# Altium footprint library resistencias_smd.PCBLIB: 183 footprints (part 9 of 12)
Each footprint in its own frame and in the unit in brackets; x right, y up, seen from the top. Pads: shape width x height; smd on the part's side, far side on the other; paste and mask are expansions set on the pad; w line width, h text height; cw(c..) or ccw(c..) is an arc to the next point about the centre after c.
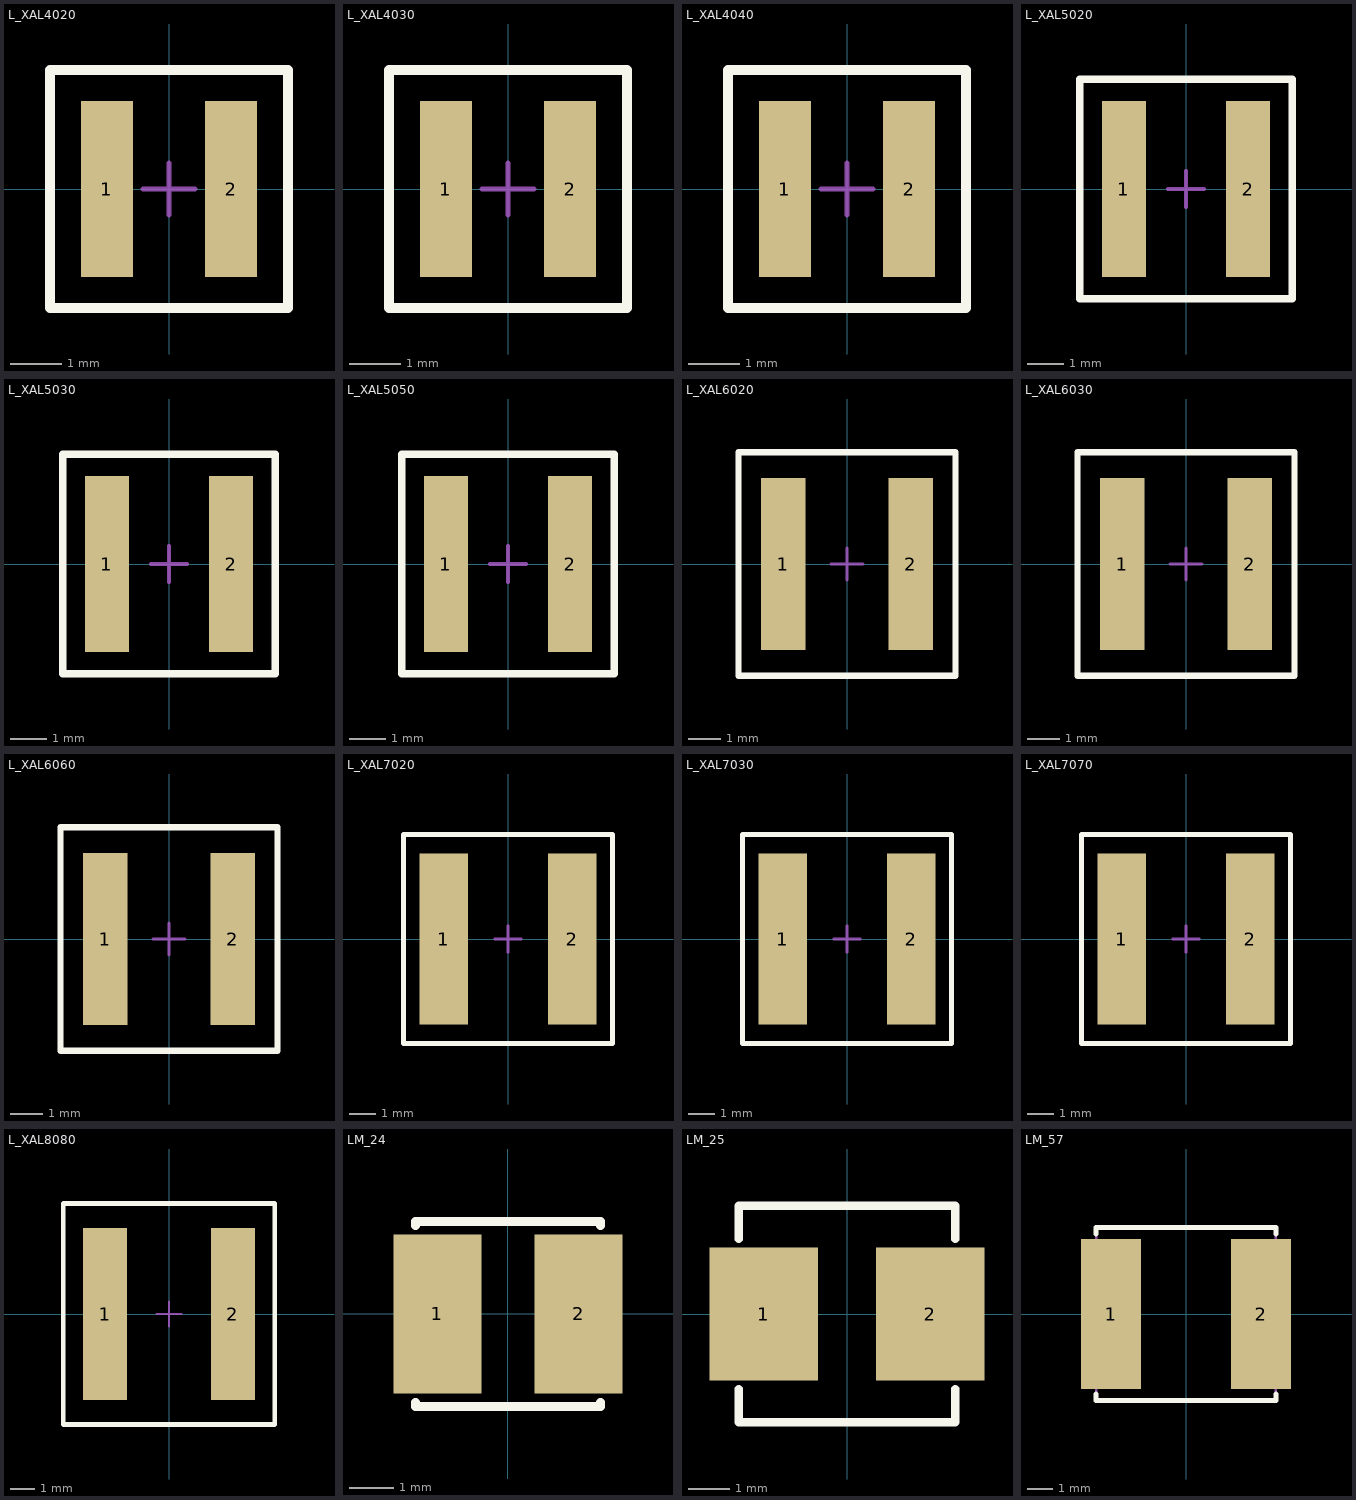
[diagram p8: the footprints below, top view; thin cyan lines are the x and y axes]

## L_XAL4020 [mm] "Inductor, XAL4020, 4.0x4.0x2.1mm"
height 2.1
pads (2):
  rect 1x3.4 smd: 1(-1.2,0) 2(1.2,0)
Top Overlay:
  lines w0.2: -2.3,-2.3 -2.3,2.3 2.3,2.3 2.3,-2.3 -2.3,-2.3
Mechanical 13:
  lines w0.1: -0.5,0 0.5,0 ; 0,-0.5 0,0.5
3D body "Coilcraft-XAL4020.step": height 2.1, standoff 0, extent -2.15,-2.15 2.15,2.15

## L_XAL4030 [mm] "Inductor, XAL4030, 4.0x4.0x3.1mm"
height 3.1
pads (2):
  rect 1x3.4 smd: 1(-1.2,0) 2(1.2,0)
Top Overlay:
  lines w0.2: -2.3,-2.3 -2.3,2.3 2.3,2.3 2.3,-2.3 -2.3,-2.3
Mechanical 13:
  lines w0.1: -0.5,0 0.5,0 ; 0,-0.5 0,0.5
3D body "Coilcraft-XAL4030.step": height 3.1, standoff 0, extent -2.15,-2.15 2.15,2.15

## L_XAL4040 [mm] "Inductor, XAL4030, 4.0x4.0x4.1mm"
height 4.1
pads (2):
  rect 1x3.4 smd: 1(-1.2,0) 2(1.2,0)
Top Overlay:
  lines w0.2: -2.3,-2.3 2.3,-2.3 2.3,2.3 -2.3,2.3 -2.3,-2.3
Mechanical 13:
  lines w0.1: -0.5,0 0.5,0 ; 0,-0.5 0,0.5
3D body "Coilcraft-XAL4040.step": height 4.1, standoff 0, extent -2.15,-2.15 2.15,2.15

## L_XAL5020 [mm] "Inductor, XAL5020, 5.3x5.5x2.0mm"
height 2
pads (2):
  rect 1.2x4.8 smd: 1(-1.7,0) 2(1.7,0)
Top Overlay:
  lines w0.2: -2.9,-3 2.9,-3 2.9,3 -2.9,3 -2.9,-3
Mechanical 13:
  lines w0.1: -0.5,0 0.5,0 ; 0,-0.5 0,0.5
3D body "Coilcraft-XAL5020.step": height 2, standoff 0, extent -2.741,-2.84 2.739,2.84

## L_XAL5030 [mm] "Inductor, XAL5030, 5.3x5.5x3.1mm"
height 3.1
pads (2):
  rect 1.2x4.8 smd: 1(-1.7,0) 2(1.7,0)
Top Overlay:
  lines w0.2: -2.9,-3 2.9,-3 2.9,3 -2.9,3 -2.9,-3
Mechanical 13:
  lines w0.1: -0.5,0 0.5,0 ; 0,-0.5 0,0.5
3D body "Coilcraft-XAL5030.step": height 3.1, standoff 0, extent -2.74,-2.84 2.74,2.84

## L_XAL5050 [mm] "Inductor, XAL5050, 5.3x5.5x5.1mm"
height 5.1
pads (2):
  rect 1.2x4.8 smd: 1(-1.7,0) 2(1.7,0)
Top Overlay:
  lines w0.2: -2.9,-3 2.9,-3 2.9,3 -2.9,3 -2.9,-3
Mechanical 13:
  lines w0.1: -0.5,0 0.5,0 ; 0,-0.5 0,0.5
3D body "Coilcraft-XAL5050.step": height 5.1, standoff 0, extent -2.74,-2.84 2.74,2.84

## L_XAL6020 [mm] "Inductor, XAL6020, 6.36x6.56x2.1mm"
height 2.1
pads (2):
  rect 1.4x5.4 smd: 1(-2,0) 2(2,0)
Top Overlay:
  lines w0.2: -3.4,-3.5 -3.4,3.5 3.4,3.5 3.4,-3.5 -3.4,-3.5
Mechanical 13:
  lines w0.1: -0.5,0 0.5,0 ; 0,-0.5 0,0.5
3D body "Coilcraft-XAL6020.step": height 2.1, standoff 0, extent -3.28,-3.38 3.28,3.38

## L_XAL6030 [mm] "Inductor, XAL6030, 6.36x6.56x3.1mm"
height 3.1
pads (2):
  rect 1.4x5.4 smd: 1(-2,0) 2(2,0)
Top Overlay:
  lines w0.2: -3.4,-3.5 3.4,-3.5 3.4,3.5 -3.4,3.5 -3.4,-3.5
Mechanical 13:
  lines w0.1: -0.5,0 0.5,0 ; 0,-0.5 0,0.5
3D body "Coilcraft-XAL6030.step": height 3.1, standoff 0, extent -3.28,-3.38 3.28,3.38

## L_XAL6060 [mm] "Inductor, XAL6060, 6.36x6.56x6.1mm"
height 6.1
pads (2):
  rect 1.4x5.4 smd: 1(-2,0) 2(2,0)
Top Overlay:
  lines w0.2: -3.4,-3.5 -3.4,3.5 3.4,3.5 3.4,-3.5 -3.4,-3.5
Mechanical 13:
  lines w0.1: -0.5,0 0.5,0 ; 0,-0.5 0,0.5
3D body "Coilcraft-XAL6060.step": height 6.1, standoff 0, extent -3.28,-3.38 3.28,3.38

## L_XAL7020 [mm] "Inductor, XAL7020, 7.5x7.5x2.1mm"
height 2.1
pads (2):
  rect 1.8x6.4 smd: 1(-2.4,0) 2(2.4,0)
Top Overlay:
  lines w0.2: -3.9,-3.9 3.9,-3.9 3.9,3.9 -3.9,3.9 -3.9,-3.9
Mechanical 13:
  lines w0.1: -0.5,0 0.5,0 ; 0,-0.5 0,0.5
3D body "Coilcraft-XAL7020-331.step": height 2, standoff 0, extent -4,-4 4,4

## L_XAL7030 [mm] "Inductor, XAL7030, 7.5x7.5x3.1mm"
height 3.1
pads (2):
  rect 1.8x6.4 smd: 1(-2.4,0) 2(2.4,0)
Top Overlay:
  lines w0.2: -3.9,-3.9 -3.9,3.9 3.9,3.9 3.9,-3.9 -3.9,-3.9
Mechanical 13:
  lines w0.1: -0.5,0 0.5,0 ; 0,-0.5 0,0.5
3D body "Coilcraft-XAL7030-472.step": height 3.1, standoff 0, extent -4,-4 4,4

## L_XAL7070 [mm] "Inductor, XAL7070, 7.5x7.5x7.0mm"
height 7
pads (2):
  rect 1.8x6.4 smd: 1(-2.4,0) 2(2.4,0)
Top Overlay:
  lines w0.2: -3.9,-3.9 -3.9,3.9 3.9,3.9 3.9,-3.9 -3.9,-3.9
Mechanical 13:
  lines w0.1: -0.5,0 0.5,0 ; 0,-0.5 0,0.5
3D body "Coilcraft-XAL7070.step": height 7, standoff 0, extent -3.85,-4 3.85,4

## L_XAL8080 [mm] "Inductor, XAL8080, 8.1x8.6x8mm"
height 8
pads (2):
  rect 1.8x7 smd: 1(-2.6,0) 2(2.6,0)
Top Overlay:
  lines w0.2: -4.3,-4.5 -4.3,4.5 4.3,4.5 4.3,-4.5 -4.3,-4.5
Mechanical 13:
  lines w0.1: -0.5,0 0.5,0 ; 0,-0.5 0,0.5
3D body "Coilcraft-XAL8080.step": height 8, standoff 0, extent -4.15,-4.4 4.15,4.4

## LM_24 [mm] "INDUCTOR, multi size, from 2x2 to 4x4mm"
height 2.5
pads (2):
  rect 2x3.6 smd: 1(-1.6,0) 2(1.6,0)
Top Overlay:
  lines w0.2: -2.1,-2 -2.1,-2.1 2.1,-2.1 2.1,-2 ; -2.1,2 -2.1,2.1 2.1,2.1 2.1,2
3D body: height 3, standoff 0, extent -2,-2 2,2

## LM_25 [mm] "INDUCTOR, multi size, FROM 2X2 TO 5X5mm"
pads (2):
  rect 2.6x3.2 smd: 1(-2,0) 2(2,0)
Top Overlay:
  lines w0.2: -2.6,-1.8 -2.6,-2.6 2.6,-2.6 2.6,-1.8 ; -2.6,1.8 -2.6,2.6 2.6,2.6 2.6,1.8
3D body: height 3, standoff 0, extent -2.5,-2.5 2.5,2.5

## LM_57 [mm] "INDUCTOR, multi size, from 5x5 to 7x7"
height 4.5
pads (2):
  rect 2.4x6 smd: 1(-3,0) 2(3,0)
Top Overlay:
  lines w0.2: -3.6,-3.2 -3.6,-3.45 3.6,-3.45 3.6,-3.2 ; -3.6,3.2 -3.6,3.45 3.6,3.45 3.6,3.2
Mechanical 13:
  lines w0.1: -3.6,-3.45 -3.6,3.45 3.6,3.45 3.6,-3.45 -3.6,-3.45
3D body "User Library-FP3-Cooper.step": height 3, standoff 0, extent -3.625,-3.35 3.625,3.35